# Altium schematic symbol library SSW-104-02-T-S-RA.Schlib: 1 symbol
Pins are listed as number, name and electrical type; pins without a type are passive.

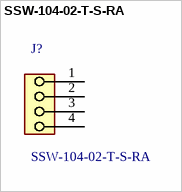
[diagram p0: symbol SSW-104-02-T-S-RA]

## SSW-104-02-T-S-RA
designator J?
Female Header, Single row, 1 x 4, R/A, THT
footprint SSW-104-02-T-S-RA (Header, 2.54mm, Female, R/A, 4pos, 1row)
pins: 1, 2, 3, 4
1 alternate drawing of the same symbol